# Altium schematic symbol library HCLP3120.SchLib: 1 symbol
Pins are listed as number, name and electrical type; pins without a type are passive.

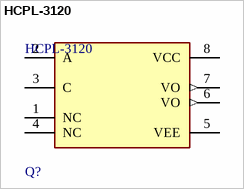
[diagram p0: symbol HCPL-3120]

## HCPL-3120
designator Q?
OPTOISO 3.75KV 1CH GATE DVR 8DIP; Manufacturer: Broadcom; Manufacturer Part Number: HCPL-3120-000E; Power Dissipation: 295mW; Turn On Delay Time: 0.3us; Min Supply Voltage: 15V; Isolation Voltage: 3750Vrms; Reverse Voltage: 5V; Forward Voltage: 1.5V; Max Supply Voltage: 30V; Forward Current: 10mA; Standoff Height: 0.51mm; Temperature Range Low: -40°C; Device Class L2: Optocouplers; Automotive: No; Mouser Description: Optocoupler; THT; Channels: 1; Out: IGBT driver; 35kV/µs; 3.75kV; Height: 4.7mm; Digikey Description: OPTOISO 3.75KV 1CH GATE DVR 8DIP; Turn Off Delay Time: 0.3us; Device Class L3: unset; Package: DIP-8; RoHS: TRUE; ComponentLink2URL: https://docs.broadcom.com/docs/AV02-0161EN; Temperature: -40°C to +100°C; Temperature Range High: +100°C; Octopart: https://octopart.com/hcpl-3120-000e-broadcom-71128428; Category: Trans; Device Class L1: Optoelectronics; ComponentLink2Description: Datasheet; Lead Free: Yes; Ambient Temperature Range Low: -40°C; Ambient Temperature Range High: +100°C
footprint SOP-8
pins: 1 NC, 2 A, 3 C, 4 NC, 5 VEE (power), 6 VO (out), 7 VO (out), 8 VCC (power)